# Altium schematic symbol library IC. DC-DC.SchLib: 2 symbols
Pins are listed as number, name and electrical type; pins without a type are passive.

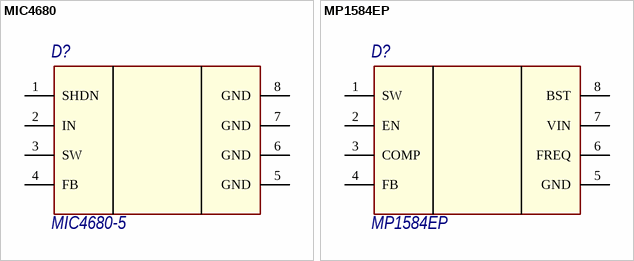
[diagram p0: symbols MIC4680 to MP1584EP]

## MIC4680
designator D?, comment MIC4680-5
footprint 8-SOIC (pitch 1.27 mm)
pins: 1 SHDN, 2 IN, 3 SW, 4 FB, 5 GND, 6 GND, 7 GND, 8 GND

## MP1584EP
designator D?
footprint 8-SOIC (pitch 1.27 mm)
pins: 1 SW, 2 EN, 3 COMP, 4 FB, 5 GND, 6 FREQ, 7 VIN, 8 BST